# Altium schematic symbol library NRS5020T4R7MMGJ.SchLib: 2 symbols
Pins are listed as number, name and electrical type; pins without a type are passive.

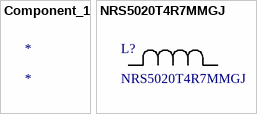
[diagram p0: symbols Component_1 to NRS5020T4R7MMGJ]

## Component_1
designator *

## NRS5020T4R7MMGJ
designator L?
No Description Available; Mfr_Name: Taiyo Yuden; Type: DEV; Copyright: Copyright (C) 2023 Ultra Librarian. All rights reserved.; Manufacturer_Part_Number: NRS5020T4R7MMGJ; RefDes: RefDes
footprint IND_TAIYO_NRS5020_TAY
pins: 1, 2